# EAGLE library part DS1882 (library ds1882)
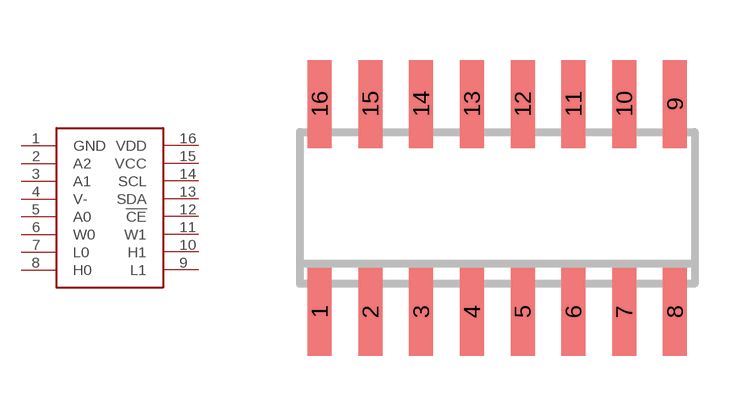
[diagram p0: symbol with the pads of SO16; footprint SO16]

Designator prefix U

## DS1882  [SO16]
1  GND  pwr
2  A2
3  A1
4  V-  pwr
5  A0
6  W0
7  L0
8  H0
9  L1
10  H1
11  W1
12  !CE
13  SDA
14  SCL
15  VCC  pwr
16  VDD  pwr

## Footprint SO16 (pad centres in mm)
smd 0.6 x 2.2: 1 -4.445,-2.6; 2 -3.175,-2.6; 3 -1.905,-2.6; 4 -0.635,-2.6; 5 0.635,-2.6; 6 1.905,-2.6; 7 3.175,-2.6; 8 4.445,-2.6; 9 4.445,2.6; 10 3.175,2.6; 11 1.905,2.6; 12 0.635,2.6; 13 -0.635,2.6; 14 -1.905,2.6; 15 -3.175,2.6; 16 -4.445,2.6